# EAGLE library part EM14A0D-C24-L064S (library alps_japan_potentiometers)
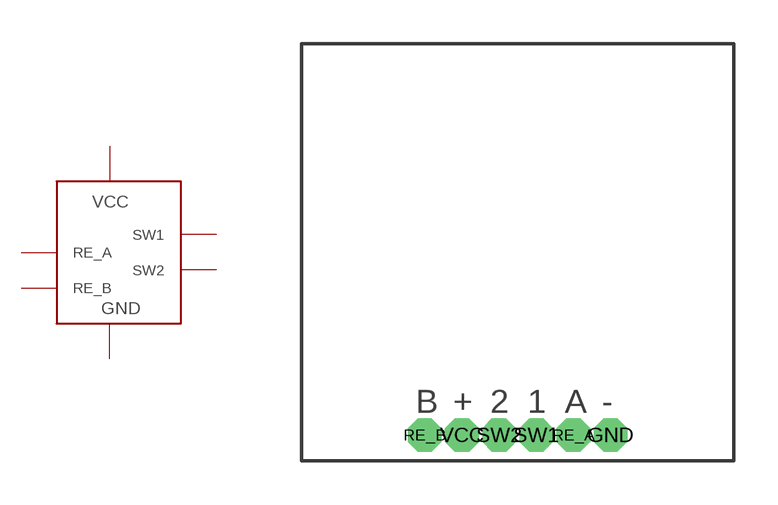
[diagram p4: symbol with the pads of EM14A0D-C24-L064S; footprint EM14A0D-C24-L064S]

Designator prefix -

## EM14A0D-C24-L064S  [EM14A0D-C24-L064S]
GND  GND  pwr
RE_A  RE_A  out
RE_B  RE_B  out
SW1  SW1
SW2  SW2
VCC  VCC  pwr

## Footprint EM14A0D-C24-L064S (pad centres in mm)
drill 0.64 pad 0.813 octagon: GND 3.175,-6.25; RE_A 1.905,-6.25; RE_B -3.175,-6.25; SW1 0.635,-6.25; SW2 -0.635,-6.25; VCC -1.905,-6.25